# EAGLE library part DC04-11SRWA (library Namenlos)
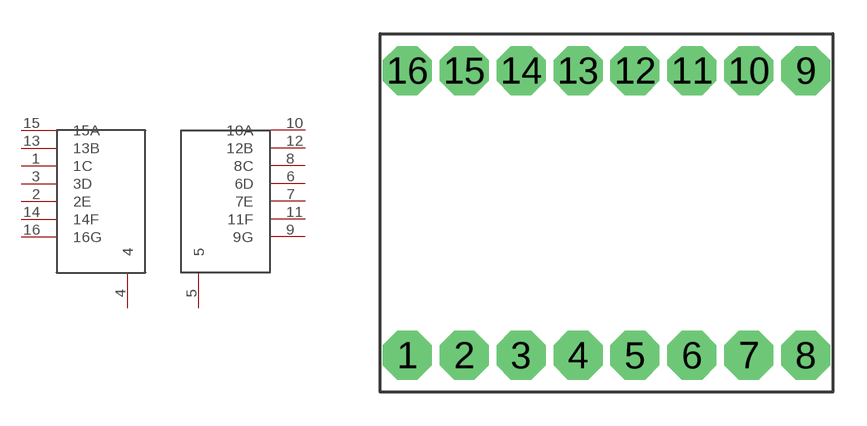
[diagram p0: symbol with the pads of DC04-11SRWA; footprint DC04-11SRWA]

Designator prefix -

## DC04-11SRWA  [DC04-11SRWA]
1  1C
2  2E
3  3D
4  4
5  5
6  6D
7  7E
8  8C
9  9G
10  10A
11  11F
12  12B
13  13B
14  14F
15  15A
16  16G

## Footprint DC04-11SRWA (pad centres in mm)
drill 0.2 pad 2.184 octagon: 1 -8.89,-6.35; 2 -6.35,-6.35; 3 -3.81,-6.35; 4 -1.27,-6.35; 5 1.27,-6.35; 6 3.81,-6.35; 7 6.35,-6.35; 8 8.89,-6.35; 9 8.89,6.35; 10 6.35,6.35; 11 3.81,6.35; 12 1.27,6.35; 13 -1.27,6.35; 14 -3.81,6.35; 15 -6.35,6.35; 16 -8.89,6.35